# EAGLE library part EASTRISING-ER-OLED0.49-1 (library GClueParts)
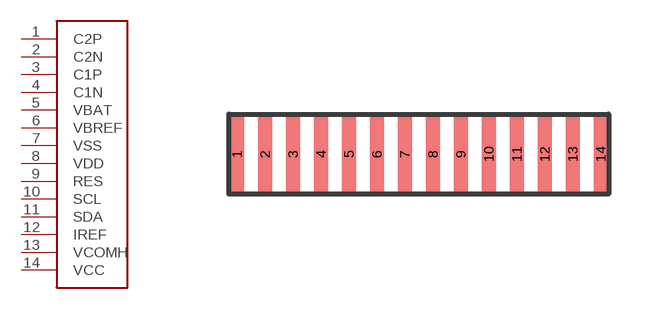
[diagram p1: symbol with the pads of EASTRISING-ER-OLED0.49-1; footprint EASTRISING-ER-OLED0.49-1]

Designator prefix -

## EASTRISING-ER-OLED0.49-1  [EASTRISING-ER-OLED0.49-1]
1  C2P
2  C2N
3  C1P
4  C1N
5  VBAT
6  VBREF
7  VSS
8  VDD
9  RES
10  SCL
11  SDA
12  IREF
13  VCOMH
14  VCC

## Footprint EASTRISING-ER-OLED0.49-1 (pad centres in mm)
smd 0.35 x 2: 1 -4.54,0; 2 -3.84,0; 3 -3.14,0; 4 -2.44,0; 5 -1.74,0; 6 -1.04,0; 7 -0.34,0; 8 0.36,0; 9 1.06,0; 10 1.76,0; 11 2.46,0; 12 3.16,0; 13 3.86,0; 14 4.56,0